# Altium schematic symbol library 1-2199230-6.SchLib: 1 symbol
Pins are listed as number, name and electrical type; pins without a type are passive.

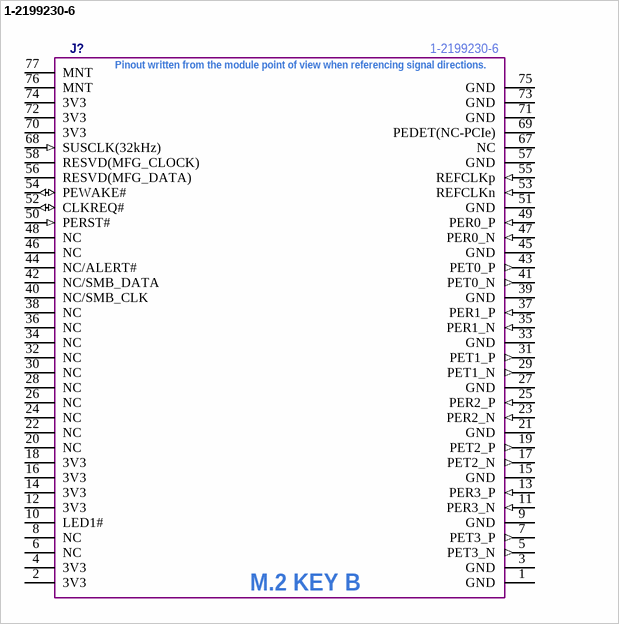
[diagram p0: symbol 1-2199230-6]

## 1-2199230-6
designator J?
Manufacurer Part Number: 1-2199230-6
pins: 1 GND (power), 2 3V3 (power), 3 GND (power), 4 3V3 (power), 5 PET3_N (out) "DIFF PAIR DM", 6 NC, 7 PET3_P (out) "DIFF PAIR DP", 8 NC, 9 GND (power), 10 LED1# (oc), 11 PER3_N (in) "DIFF PAIR DM", 12 3V3 (power), 13 PER3_P (in) "DIFF PAIR DP", 14 3V3 (power), 15 GND (power), 16 3V3 (power), 17 PET2_N (out) "DIFF PAIR DM", 18 3V3 (power), 19 PET2_P (out) "DIFF PAIR DP", 20 NC, 21 GND (power), 22 NC, 23 PER2_N (in) "DIFF PAIR DM", 24 NC, 25 PER2_P (in) "DIFF PAIR DP", 26 NC, 27 GND (power), 28 NC, 29 PET1_N (out) "DIFF PAIR DM", 30 NC, 31 PET1_P (out) "DIFF PAIR DP", 32 NC, 33 GND (power), 34 NC, 35 PER1_N (in) "DIFF PAIR DM", 36 NC, 37 PER1_P (in) "DIFF PAIR DP", 38 NC, 39 GND (power), 40 NC/SMB_CLK (oc) "1V8", 41 PET0_N (out) "DIFF PAIR DM", 42 NC/SMB_DATA (oc) "1V8", 43 PET0_P (out) "DIFF PAIR DP", 44 NC/ALERT# (oc) "1V8", 45 GND (power), 46 NC, 47 PER0_N (in) "DIFF PAIR DM", 48 NC, 49 PER0_P (in) "DIFF PAIR DP", 50 PERST# (in) "3V3", 51 GND (power), 52 CLKREQ# (io) "3V3", 53 REFCLKn (in) "DIFF PAIR DM", 54 PEWAKE# (io) "3V3", 55 REFCLKp (in) "DIFF PAIR DP", 56 RESVD(MFG_DATA) "NC", 57 GND (power), 58 RESVD(MFG_CLOCK) "NC", 67 NC, 68 SUSCLK(32kHz) (in) "3V3", 69 PEDET(NC-PCIe), 70 3V3 (power), 71 GND (power), 72 3V3 (power), 73 GND (power), 74 3V3 (power), 75 GND (power), 76 MNT "GND", 77 MNT "GND"
text: Pinout written from the module point of view when referencing signal directions.; M.2 KEY B